# Altium footprint library MCT0603MD1000DP500.PcbLib: 4 footprints
Each footprint in its own frame and in the unit in brackets; x right, y up, seen from the top. Pads: shape width x height; smd on the part's side, far side on the other; paste and mask are expansions set on the pad; w line width, h text height; cw(c..) or ccw(c..) is an arc to the next point about the centre after c.
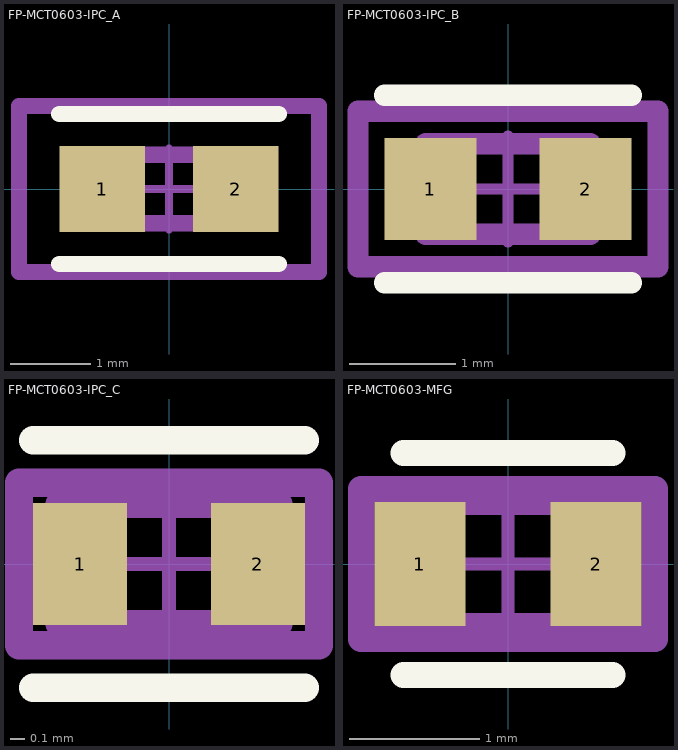
[diagram p0: the footprints below, top view; thin cyan lines are the x and y axes]

## FP-MCT0603-IPC_A [mm]
pads (2):
  rect 1.064x1.062 smd paste+0 mask+0: 1(-0.829,0) 2(0.829,0)
Top Overlay:
  lines w0.2: -1.361,-0.931 1.361,-0.931 ; -1.361,0.931 1.361,0.931
Top Assembly:
  lines w0.2: -1.861,-1.031 -1.861,1.031 1.861,1.031 1.861,-1.031 -1.861,-1.031
  text ".Designator" at 0,0.188 h1
Top 3D Body:
  lines w0.2: -0.775,-0.425 -0.775,0.425 0.775,0.425 0.775,-0.425 -0.775,-0.425
Top Courtyard:
  lines w0.2: -1.861,-1.031 -1.861,1.031 1.861,1.031 1.861,-1.031 -1.861,-1.031
Top Component Center:
  lines w0.1: -0.5,0 0.5,0 ; 0,-0.5 0,0.5
3D body "Res_Vishay_MCT06030F2152BP100_eec.STEP": height 0.25, standoff 0, extent -1.861,-1.031 1.861,1.031

## FP-MCT0603-IPC_B [mm]
pads (2):
  rect 0.864x0.962 smd paste+0 mask+0: 1(-0.729,0) 2(0.729,0)
Top Overlay:
  lines w0.2: -1.161,-0.881 1.161,-0.881 ; -1.161,0.881 1.161,0.881
Top Assembly:
  lines w0.2: -1.411,-0.731 1.411,-0.731 1.411,0.731 -1.411,0.731 -1.411,-0.731
  text ".Designator" at 0,0.188 h1
Top 3D Body:
  lines w0.2: -0.775,-0.425 0.775,-0.425 0.775,0.425 -0.775,0.425 -0.775,-0.425
Top Courtyard:
  lines w0.2: -1.411,-0.731 1.411,-0.731 1.411,0.731 -1.411,0.731 -1.411,-0.731
Top Component Center:
  lines w0.1: -0.5,0 0.5,0 ; 0,-0.5 0,0.5
3D body "Res_Vishay_MCT06030F2152BP100_eec.STEP": height 0.25, standoff 0, extent -1.411,-0.731 1.411,0.731

## FP-MCT0603-IPC_C [mm]
pads (2):
  rect 0.664x0.862 smd paste+0 mask+0: 1(-0.629,0) 2(0.629,0)
Top Overlay:
  lines w0.2: -0.961,-0.875 0.961,-0.875 ; -0.961,0.875 0.961,0.875
Top Assembly:
  lines w0.2: -1.061,-0.575 1.061,-0.575 1.061,0.575 -1.061,0.575 -1.061,-0.575
  text ".Designator" at 0,0.188 h1
Top 3D Body:
  lines w0.2: -0.775,-0.425 0.775,-0.425 0.775,0.425 -0.775,0.425 -0.775,-0.425
Top Courtyard:
  lines w0.2: -1.061,-0.575 1.061,-0.575 1.061,0.575 -1.061,0.575 -1.061,-0.575
Top Component Center:
  lines w0.1: -0.5,0 0.5,0 ; 0,-0.5 0,0.5
3D body "Res_Vishay_MCT06030F2152BP100_eec.STEP": height 0.25, standoff 0, extent -1.061,-0.575 1.061,0.575

## FP-MCT0603-MFG [mm]
pads (2):
  rect 0.7x0.95 smd paste+0 mask+0: 1(-0.675,0) 2(0.675,0)
Top Overlay:
  lines w0.2: -0.8,-0.85 0.8,-0.85 ; -0.8,0.85 0.8,0.85
Top Assembly:
  lines w0.2: -1.125,-0.575 1.125,-0.575 1.125,0.575 -1.125,0.575 -1.125,-0.575
  text ".Designator" at 0,0.188 h1
Top 3D Body:
  lines w0.2: -0.8,-0.475 0.8,-0.475 0.8,0.475 -0.8,0.475 -0.8,-0.475
Top Courtyard:
  lines w0.2: -1.125,-0.575 1.125,-0.575 1.125,0.575 -1.125,0.575 -1.125,-0.575
Top Component Center:
  lines w0.1: -0.5,0 0.5,0 ; 0,-0.5 0,0.5
3D body "Res_Vishay_MCT06030F2152BP100_eec.STEP": height 0.25, standoff 0, extent -1.125,-0.575 1.125,0.575